# Altium schematic symbol library V三极管.SchLib: 7 symbols
Pins are listed as number, name and electrical type; pins without a type are passive.

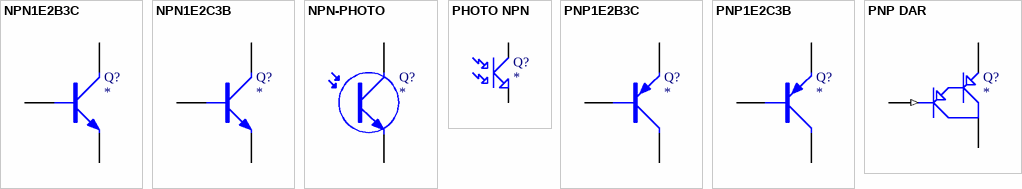
[diagram p0: symbols NPN1E2B3C to PNP DAR]

## NPN1E2B3C
designator Q?
?
footprint TO92A
footprint TO92B
pins: 1 E, 2 B, 3 C

## NPN1E2C3B
designator Q?
?
footprint TO92A
footprint TO92B
pins: 1 E, 2 C, 3 B

## NPN-PHOTO
designator Q?
pins: 1 C, 2 E

## PHOTO NPN
designator Q?
NPN Phototransistor
footprint TO92A
pins: 1 C, 2 E

## PNP1E2B3C
designator Q?
?
footprint TO92A
footprint TO92B
pins: 1 E, 2 B, 3 C

## PNP1E2C3B
designator Q?
?
footprint TO92A
footprint TO92B
pins: 1 E, 2 C, 3 B

## PNP DAR
designator Q?
PNP Darlington Transistor
pins: 1 B (in), 3 C, E 2